# EAGLE library part MCP6C02 (library TRN_Open_Servo)
MCP6C02 Zero-Drift, 65V High-Side Current Sense Amplifier The Microchip Technology Inc. MCP6C02 high-side current sense amplifier is offered with preset gains of 20, 50 and 100 V/V. The Common-mode input range (VIP) is +3V to +65V. The differential-mode input range (VDM=VIP–VIM) supports unidirectional and bidirectional applications. The power supply can be set between 2.0V and 5.5V. This device is specified from -40°C to +125°C (E-Temp) and is provided in the SOT-23 package. The Zero-Drift architecture supports very low inputerrors, which allow a design to use shunt resistors of lower value (and lower power dissipation).
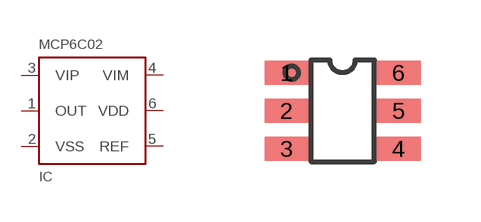
[diagram p1: symbol with the pads of SOT-23-6; footprint SOT-23-6]

Designator prefix IC

## MCP6C02SMD  [SOT-23-6]
1  OUT  out
2  VSS  pwr
3  VIP  in
4  VIM  in
5  REF  in
6  VDD  pwr

## Footprint SOT-23-6 (pad centres in mm)
SOT-23-6
smd 1.1 x 0.6: 1 -1.4,0.95; 2 -1.4,0; 3 -1.4,-0.95; 4 1.4,-0.95; 5 1.4,0; 6 1.4,0.95